# Altium footprint library NMOS.PcbLib: 2 footprints
Each footprint in its own frame and in the unit in brackets; x right, y up, seen from the top. Pads: shape width x height; smd on the part's side, far side on the other; paste and mask are expansions set on the pad; w line width, h text height; cw(c..) or ccw(c..) is an arc to the next point about the centre after c.
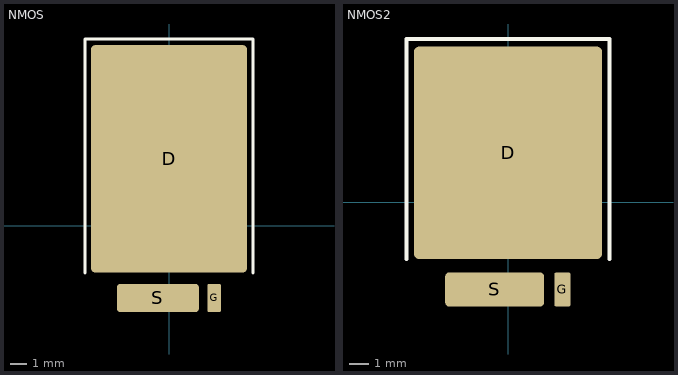
[diagram p0: the footprints below, top view; thin cyan lines are the x and y axes]

## NMOS [mil]
pads (3):
  rrect5% 380x554 smd: D(0,163)
  rrect25% 33x69 smd: G(110,-176)
  rrect25% 200x69 smd: S(-27,-176)
Top Overlay:
  lines w7.87: -205,-115 -205,455 205,455 205,-115
3D body "SOT669.step": height 39.44, standoff 0.16, extent -59.68,-170 129.68,70.55

## NMOS2 [mil]
pads (3):
  rrect5% 380x429 smd: D(0,100)
  rrect25% 33x69 smd: G(110,-176)
  rrect25% 200x69 smd: S(-27,-176)
Top Overlay:
  lines w7.87: -205,-115 -205,330 205,330 205,-115
3D body "SOT669.step": height 39.44, standoff 0.16, extent -59.68,-170 129.68,70.55